# EAGLE library part USB_SOCKET_A (library 000001)
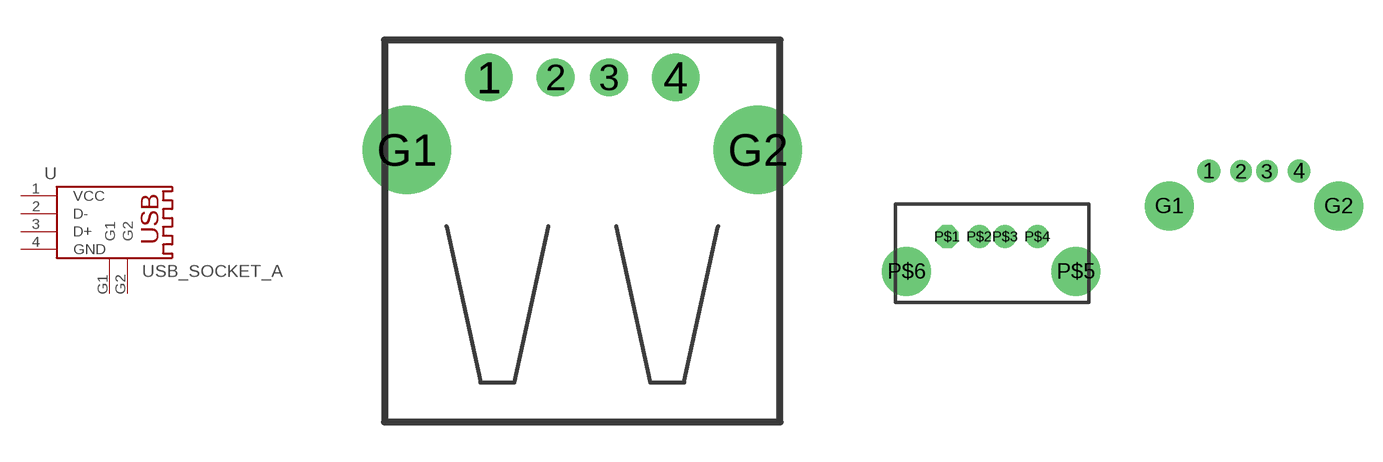
[diagram p133: symbol with the pads of PN87520_MIO; footprints PN87520_MIO, 1734366_C]

Designator prefix -

## USB_SOCKET_A  [PN87520_MIO]
1  VCC
2  D-
3  D+
4  GND
G1  G1
G2  G2

## USB_SOCKET_AC  [1734366_C]

## Footprint PN87520_MIO (pad centres in mm)
drill 0.9 pad 1.778 round: 1 -3.5,2.71; 4 3.5,2.71
drill 0.9 round: 2 -1,2.71; 3 1,2.71
drill 2.3 round: G1 -6.57,0; G2 6.57,0

## Footprint 1734366_C (pad centres in mm)
drill 0.5 pad 1.778 round: 1 16.82,7.79; 4 23.82,7.79; P$2 -1,2.71; P$3 1,2.71; P$4 3.5,2.71
drill 0.5 pad 1.676 round: 2 19.32,7.79; 3 21.32,7.79
drill 0.5 pad 3.81 round: G1 13.75,5.08; G2 26.89,5.08; P$5 6.5,0; P$6 -6.64,0
drill 0.5 pad 1.778 octagon: P$1 -3.5,2.71